# EAGLE library part SOIC16-W-GENERIC (library BMC components)
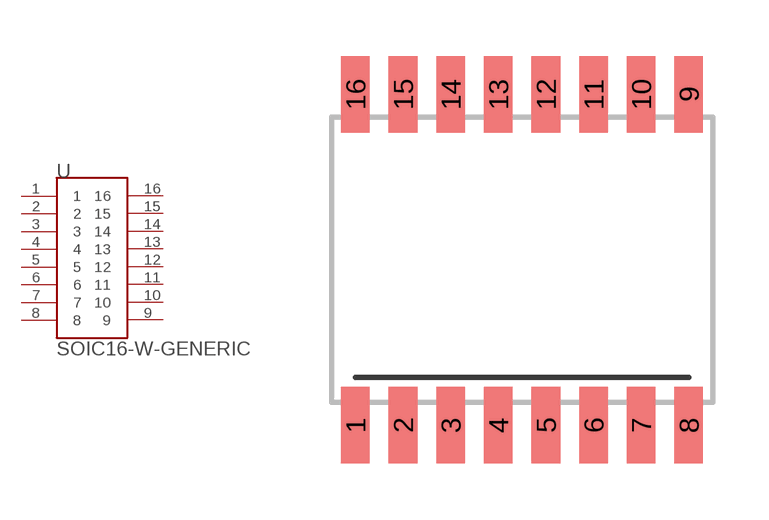
[diagram p20: symbol with the pads of SO-16_WIDE; footprint SO-16_WIDE]

Designator prefix -

## SOIC16-W-GENERIC  [SO-16_WIDE]
1  1
2  2
3  3
4  4
5  5
6  6
7  7
8  8
9  9
10  10
11  11
12  12
13  13
14  14
15  15
16  16

## Footprint SO-16_WIDE (pad centres in mm)
SO-16 W (0.300") The SO-16 Wide (0.300") package, from the Linear drawing LTC DWG # 05-08-1620: http://cds.linear.com/docs/Packaging/SO_16_05-08-1620.pdf Pin pitch: 0.05" Device width: 0.3" Device length: 0.4" Devices confirmed to correspond to this package: Linear LT1156 (LTC1156CSW)
smd 0.762 x 2.032: 1 -4.445,-4.413; 2 -3.175,-4.413; 3 -1.905,-4.413; 4 -0.635,-4.413; 5 0.635,-4.413; 6 1.905,-4.413; 7 3.175,-4.413; 8 4.445,-4.413; 9 4.445,4.413; 10 3.175,4.413; 11 1.905,4.413; 12 0.635,4.413; 13 -0.635,4.413; 14 -1.905,4.413; 15 -3.175,4.413; 16 -4.445,4.413